# EAGLE library part MCP602 (library MyAmps)
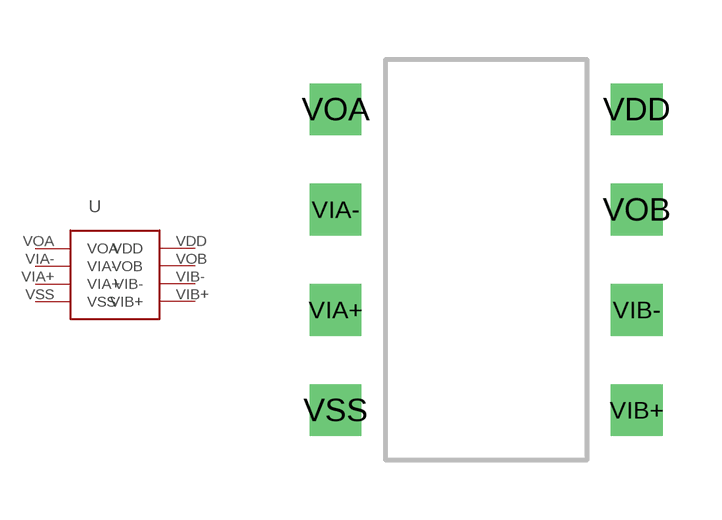
[diagram p1: symbol with the pads of MCP602; footprint MCP602]

Designator prefix -

## MCP602  [MCP602]
VDD  VDD
VIA+  VIA+
VIA-  VIA-
VIB+  VIB+
VIB-  VIB-
VOA  VOA
VOB  VOB
VSS  VSS

## Footprint MCP602 (pad centres in mm)
drill 0.8 square: VDD 3.81,3.81; VIA+ -3.81,-1.27; VIA- -3.81,1.27; VIB+ 3.81,-3.81; VIB- 3.81,-1.27; VOA -3.81,3.81; VOB 3.81,1.27; VSS -3.81,-3.81